# Altium footprint library PACKAGES_SON.PcbLib: 8 footprints
Each footprint in its own frame and in the unit in brackets; x right, y up, seen from the top. Pads: shape width x height; smd on the part's side, far side on the other; paste and mask are expansions set on the pad; w line width, h text height; cw(c..) or ccw(c..) is an arc to the next point about the centre after c.
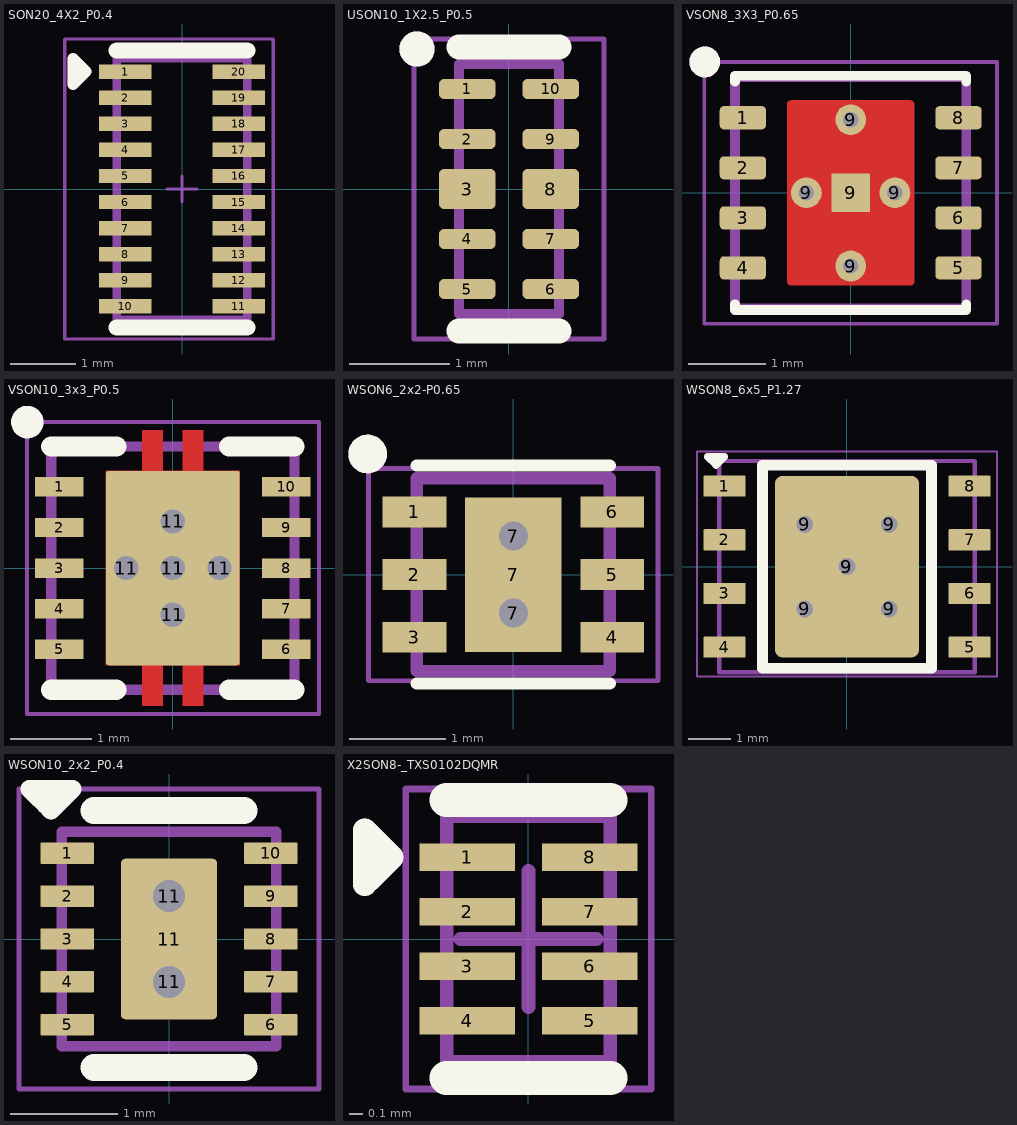
[diagram p0: the footprints below, top view; thin cyan lines are the x and y axes]

## SON20_4X2_P0.4 [mm]
pads (20):
  rect 0.8x0.22 smd: 1(-0.87,1.8) 2(-0.87,1.4) 3(-0.87,1) 4(-0.87,0.6) 5(-0.87,0.2) 6(-0.87,-0.2) 7(-0.87,-0.6) 8(-0.87,-1) 9(-0.87,-1.4) 10(-0.87,-1.8) 11(0.87,-1.8) 12(0.87,-1.4) 13(0.87,-1) 14(0.87,-0.6) 15(0.87,-0.2) 16(0.87,0.2) 17(0.87,0.6) 18(0.87,1) 19(0.87,1.4) 20(0.87,1.8)
Top Overlay:
  lines w0.17: -1.475,1.8 -1.525,1.75 -1.675,1.6 -1.675,2 -1.475,1.8 ; -1.475,1.8 -1.475,1.8
  lines w0.25: -1,-2.125 1,-2.125 ; -1,2.125 1,2.125
Mechanical 13:
  lines w0.127: -1,-2 1,-2 1,2 -1,2 -1,-2
  lines w0.17: -1.475,1.8 -1.525,1.75 -1.675,1.6 -1.675,2 -1.475,1.8 ; -1.475,1.8 -1.475,1.8
Mechanical 15:
  lines w0.05: -0.225,0 0.225,0 ; 0,-0.2 0,0.2 ; -1.8,-2.3 -1.8,2.3 1.4,2.3 1.4,-2.3 -1.8,-2.3
3D body "SON-20_4x2.step": height 0.55, standoff 0, extent -1,-2 1,2

## USON10_1X2.5_P0.5 [mm]
pads (10):
  rrect50% 0.565x0.2 smd mask+0: 1(-0.417,1) 2(-0.417,0.5) 4(-0.417,-0.5) 5(-0.417,-1) 6(0.417,-1) 7(0.417,-0.5) 9(0.417,0.5) 10(0.417,1)
  rrect25% 0.565x0.4 smd paste-1 mask+0: 3(-0.417,0) 8(0.417,0)
Top Overlay:
  circle w0.25: c-0.92,1.4 r0.05
  lines w0.25: -0.5,-1.42 0.5,-1.42 ; -0.5,1.42 0.5,1.42
Top Paste:
  drawing of 2 lines, arcs and shapes, not listed
Top Solder:
  region: -0.065,0.83 -0.77,0.83 -0.77,1.17 -0.065,1.17
  region: -0.065,0.33 -0.77,0.33 -0.77,0.67 -0.065,0.67
  region: -0.065,-0.67 -0.77,-0.67 -0.77,-0.33 -0.065,-0.33
  region: -0.065,-1.17 -0.77,-1.17 -0.77,-0.83 -0.065,-0.83
  region: 0.77,0.83 0.065,0.83 0.065,1.17 0.77,1.17
  region: 0.77,0.33 0.065,0.33 0.065,0.67 0.77,0.67
  region: 0.77,-0.67 0.065,-0.67 0.065,-0.33 0.77,-0.33
  region: 0.77,-1.17 0.065,-1.17 0.065,-0.83 0.77,-0.83
  region: -0.065,-0.27 -0.77,-0.27 -0.77,0.27 -0.065,0.27
  region: 0.77,-0.27 0.065,-0.27 0.065,0.27 0.77,0.27
Mechanical 13:
  circle w0.25: c-0.92,1.4 r0.05
  lines w0.1: -0.5,-1.25 0.5,-1.25 0.5,1.25 -0.5,1.25 -0.5,-1.25
Mechanical 15:
  lines w0.05: -0.95,-1.5 -0.95,1.5 0.95,1.5 0.95,-1.5 -0.95,-1.5
3D body "TPD4EUSB30DQAR.STEP": height 0.55, standoff 0, extent -0.5,-1.25 0.5,1.25

## VSON8_3X3_P0.65 [mm]
height 1
pads (13):
  rrect35% 0.6x0.3 smd mask+0: 1(-1.4,0.975) 2(-1.4,0.325) 3(-1.4,-0.325) 4(-1.4,-0.975) 5(1.4,-0.975) 6(1.4,-0.325) 7(1.4,0.325) 8(1.4,0.975)
  round 0.4 hole 0.2 mask+0: 9(-0.575,0) 9(0,-0.95) 9(0,0.95) 9(0.575,0)
  rect 0.5x0.5 smd paste-1 mask+0: 9(0,0)
Top Layer:
  region: 0.783,1.199 0.785,1.199 0.788,1.198 0.79,1.198 0.793,1.197 0.795,1.196 0.798,1.195 0.8,1.193 0.802,1.192 0.804,1.19 0.806,1.189 0.808,1.187 0.81,1.185 0.812,1.183 0.814,1.181 0.815,1.179 0.817,1.177 0.818,1.175 0.82,1.173 0.821,1.17 0.822,1.168 0.823,1.165 0.823,1.163 0.824,1.16 0.824,1.158 0.825,1.155 0.825,1.153 0.825,1.15 0.825,-1.15 0.825,-1.153 0.825,-1.155 0.824,-1.158 0.824,-1.16 0.823,-1.163 0.823,-1.165 0.822,-1.168 0.821,-1.17 0.82,-1.173 0.818,-1.175 0.817,-1.177 0.815,-1.179 0.814,-1.181 0.812,-1.183 0.81,-1.185 0.808,-1.187 0.806,-1.189 0.804,-1.19 0.802,-1.192 0.8,-1.193 0.798,-1.195 0.795,-1.196 0.793,-1.197 0.79,-1.198 0.788,-1.198 0.785,-1.199 0.783,-1.199 0.78,-1.2 -0.78,-1.2 -0.783,-1.199 -0.785,-1.199 -0.788,-1.198 -0.79,-1.198 -0.793,-1.197 -0.795,-1.196 -0.798,-1.195 -0.8,-1.193 -0.802,-1.192 -0.804,-1.19 -0.806,-1.189 -0.808,-1.187 -0.81,-1.185 -0.812,-1.183 -0.814,-1.181 -0.815,-1.179 -0.817,-1.177 -0.818,-1.175 -0.82,-1.173 -0.821,-1.17 -0.822,-1.168 -0.823,-1.165 -0.823,-1.163 -0.824,-1.16 -0.824,-1.158 -0.825,-1.155 -0.825,-1.153 -0.825,-1.15 -0.825,1.15 -0.825,1.153 -0.825,1.155 -0.824,1.158 -0.824,1.16 -0.823,1.163 -0.823,1.165 -0.822,1.168 -0.821,1.17 -0.82,1.173 -0.818,1.175 -0.817,1.177 -0.815,1.179 -0.814,1.181 -0.812,1.183 -0.81,1.185 -0.808,1.187 -0.806,1.189 -0.804,1.19 -0.802,1.192 -0.8,1.193 -0.798,1.195 -0.795,1.196 -0.793,1.197 -0.79,1.198 -0.788,1.198 -0.785,1.199 -0.783,1.199 -0.78,1.2 0.78,1.2
Top Overlay:
  circle w0.2: c-1.895,1.7 r0.1
  lines w0.127: -1.5,-1.445 -1.5,-1.52 1.5,-1.52 1.5,-1.445 ; -1.5,1.445 -1.5,1.52 1.5,1.52 1.5,1.445
Top Paste:
  drawing of 2 lines, arcs and shapes, not listed
Top Solder:
  drawing of 9 lines, arcs and shapes, not listed
Mechanical 13:
  circle w0.2: c-1.895,1.7 r0.1
  lines w0.127: -1.5,-1.5 -1.5,1.5 1.5,1.5 1.5,-1.5 -1.5,-1.5
Mechanical 15:
  lines w0.05: -1.9,-1.7 1.9,-1.7 1.9,1.7 -1.9,1.7 -1.9,-1.7
3D body "step_temp.STEP": height 1, standoff 0, extent -1.5,-1.5 1.5,1.5

## VSON10_3x3_P0.5 [mm]
pads (16):
  rect 0.6x0.24 smd mask+0: 1(-1.4,1) 2(-1.4,0.5) 3(-1.4,0) 4(-1.4,-0.5) 5(-1.4,-1) 6(1.4,-1) 7(1.4,-0.5) 8(1.4,0) 9(1.4,0.5) 10(1.4,1)
  round 0.5 hole 0.3 mask+0: 11(-0.575,0) 11(0,-0.575) 11(0,0) 11(0,0.575) 11(0.575,0)
  rrect5% 1.65x2.4 smd paste-2 mask+0: 11(0,0)
Top Layer:
  region: 0.375,1.2 0.825,1.2 0.825,-1.2 0.375,-1.2 0.375,-1.7 0.125,-1.7 0.125,-1.2 -0.125,-1.2 -0.125,-1.7 -0.375,-1.7 -0.375,-1.2 -0.825,-1.2 -0.825,1.2 -0.375,1.2 -0.375,1.7 -0.125,1.7 -0.125,1.2 0.125,1.2 0.125,1.7 0.375,1.7
Top Overlay:
  circle w0.2: c-1.795,1.8 r0.1
  lines w0.25: -1.5,-1.5 -0.695,-1.5 ; -1.5,1.5 -0.695,1.5 ; 0.695,-1.5 1.5,-1.5 ; 0.695,1.5 1.5,1.5
Top Paste:
  region: 0.75,0.1 -0.75,0.1 -0.75,1.16 0.75,1.16
  region: 0.75,-1.16 -0.75,-1.16 -0.75,-0.1 0.75,-0.1
  region: 0.375,1.36 0.125,1.36 0.125,1.7 0.375,1.7
  region: -0.125,1.36 -0.375,1.36 -0.375,1.7 -0.125,1.7
  region: 0.375,-1.7 0.125,-1.7 0.125,-1.36 0.375,-1.36
  region: -0.125,-1.7 -0.375,-1.7 -0.375,-1.36 -0.125,-1.36
Top Solder:
  region: 0.445,1.27 0.895,1.27 0.895,-1.27 0.445,-1.27 0.445,-1.77 0.055,-1.77 0.055,-1.27 -0.055,-1.27 -0.055,-1.77 -0.445,-1.77 -0.445,-1.27 -0.895,-1.27 -0.895,1.27 -0.445,1.27 -0.445,1.77 -0.055,1.77 -0.055,1.27 0.055,1.27 0.055,1.77 0.445,1.77
  region: 1.77,0.81 1.03,0.81 1.03,1.19 1.77,1.19
  region: 1.77,0.31 1.03,0.31 1.03,0.69 1.77,0.69
  region: 1.77,-0.19 1.03,-0.19 1.03,0.19 1.77,0.19
  region: 1.77,-0.69 1.03,-0.69 1.03,-0.31 1.77,-0.31
  region: 1.77,-1.19 1.03,-1.19 1.03,-0.81 1.77,-0.81
  region: -1.03,-1.19 -1.77,-1.19 -1.77,-0.81 -1.03,-0.81
  region: -1.03,-0.69 -1.77,-0.69 -1.77,-0.31 -1.03,-0.31
  region: -1.03,-0.19 -1.77,-0.19 -1.77,0.19 -1.03,0.19
  region: -1.03,0.31 -1.77,0.31 -1.77,0.69 -1.03,0.69
  region: -1.03,0.81 -1.77,0.81 -1.77,1.19 -1.03,1.19
Mechanical 13:
  circle w0.2: c-1.795,1.8 r0.1
  lines w0.127: -1.5,-1.5 -1.5,1.5 1.5,1.5 1.5,-1.5 -1.5,-1.5
Mechanical 15:
  lines w0.05: -1.8,-1.8 -1.8,1.8 1.8,1.8 1.8,-1.8 -1.8,-1.8
3D body "VSON10_3x3_P0.5.step": height 1, standoff 0, extent -1.5,-1.5 1.5,1.5

## WSON6_2x2-P0.65 [mm]
pads (9):
  rect 0.66x0.32 smd: 1(-1.025,0.65) 2(-1.025,0) 3(-1.025,-0.65) 4(1.025,-0.65) 5(1.025,0) 6(1.025,0.65)
  round 0.6 hole 0.3: 7(0,-0.4) 7(0,0.4)
  rect 1x1.6 smd paste-2: 7(0,0)
Top Overlay:
  circle w0.2: c-1.51,1.25 r0.1
  lines w0.127: -1,-1.13 1,-1.13 ; -1,1.13 1,1.13
Top Paste:
  region: 0.316,-0.506 -0.316,-0.506 -0.316,0.506 0.316,0.506
Mechanical 13:
  circle w0.2: c-1.51,1.25 r0.1
  lines w0.127: -1,-1 1,-1 1,1 -1,1 -1,-1
Mechanical 15:
  lines w0.05: -1.5,-1.1 1.5,-1.1 1.5,1.1 -1.5,1.1 -1.5,-1.1
3D body "WSON6_2x2_P0.65.step": height 0.8, standoff 0, extent -1,-1 1,1

## WSON8_6x5_P1.27 [mm]
pads (14):
  rrect10% 1x0.5 smd: 1(-2.9,1.905) 2(-2.9,0.635) 3(-2.9,-0.635) 4(-2.9,-1.905) 5(2.9,-1.905) 6(2.9,-0.635) 7(2.9,0.635) 8(2.9,1.905)
  round 0.8 hole 0.4: 9(-1,-1) 9(-1,1) 9(0,0) 9(1,-1) 9(1,1)
  rrect10% 3.4x4.3 smd: 9(0,0)
Top Overlay:
  lines w0.17: -3.1,2.4 -2.9,2.6 -3.3,2.6 -3.25,2.55 -3.15,2.45 -3.1,2.4 ; -3.1,2.4 -3.1,2.4
  lines w0.25: -2,-2.4 -2,2.4 2,2.4 2,-2.4 -2,-2.4
Mechanical 13:
  lines w0.1: -3.025,-2.5 -3.025,2.5 3.025,2.5 3.025,-2.5 -3.025,-2.5
  lines w0.17: -3.1,2.4 -2.9,2.6 -3.3,2.6 -3.25,2.55 -3.15,2.45 -3.1,2.4 ; -3.1,2.4 -3.1,2.4
Mechanical 15:
  lines w0.05: -0.225,0 0.225,0 ; 0,-0.2 0,0.2 ; 3.55,-2.6 -3.55,-2.6 -3.55,-2.375 -3.55,2.725 3.55,2.725 3.55,-2.375 3.55,-2.6 ; 3.55,-2.6 3.55,-2.6
  lines w0.1: -0.5,0 0.5,0 ; 0,-0.5 0,0.5
3D body "WIN_ZP-8_WIN.step": height 0.79, standoff 0, extent -3.048,-2.553 3.048,2.553

## WSON10_2x2_P0.4 [mm]
pads (13):
  rrect10% 0.5x0.2 smd: 1(-0.95,0.8) 2(-0.95,0.4) 3(-0.95,0) 4(-0.95,-0.4) 5(-0.95,-0.8) 6(0.95,-0.8) 7(0.95,-0.4) 8(0.95,0) 9(0.95,0.4) 10(0.95,0.8)
  round 0.6 hole 0.3: 11(0,-0.4) 11(0,0.4)
  rrect10% 0.9x1.5 smd: 11(0,0)
Top Overlay:
  lines w0.17: -1.1,1.2 -1.15,1.25 -1.25,1.35 -1.3,1.4 -0.9,1.4 -1.1,1.2 ; -1.1,1.2 -1.1,1.2
  lines w0.25: -0.7,-1.2 0.7,-1.2 ; -0.7,1.2 0.7,1.2
Mechanical 13:
  lines w0.1: -1,-1 -1,1 1,1 1,-1 -1,-1
  lines w0.17: -1.1,1.2 -0.9,1.4 -1.3,1.4 -1.25,1.35 -1.15,1.25 -1.1,1.2 ; -1.1,1.2 -1.1,1.2
Mechanical 15:
  lines w0.05: -0.225,0 0.225,0 ; 0,-0.2 0,0.2 ; -1.4,-1.4 1.4,-1.4 1.4,1.4 -1.4,1.4 -1.4,-1.4
3D body "DSQ0010A-WSON10-2x2-P0.4.stp": height 0.8, standoff 0, extent -1,-1 1,1

## X2SON8-_TXS0102DQMR [mm]
pads (8):
  rect 0.7x0.2 smd mask+0: 1(-0.45,0.6) 2(-0.45,0.2) 3(-0.45,-0.2) 4(-0.45,-0.6) 5(0.45,-0.6) 6(0.45,-0.2) 7(0.45,0.2) 8(0.45,0.6)
Top Overlay:
  lines w0.17: -1,0.6 -1.05,0.55 -1.15,0.45 -1.2,0.4 -1.2,0.8 -1,0.6 ; -1,0.6 -1,0.6
  lines w0.25: -0.6,-1.02 0.6,-1.02 ; -0.6,1.02 0.6,1.02
Top Solder:
  region: 0.85,-0.75 0.05,-0.75 0.05,-0.45 0.85,-0.45
  region: 0.85,-0.35 0.05,-0.35 0.05,-0.05 0.85,-0.05
  region: 0.85,0.05 0.05,0.05 0.05,0.35 0.85,0.35
  region: 0.85,0.45 0.05,0.45 0.05,0.75 0.85,0.75
  region: -0.05,-0.75 -0.85,-0.75 -0.85,-0.45 -0.05,-0.45
  region: -0.05,-0.35 -0.85,-0.35 -0.85,-0.05 -0.05,-0.05
  region: -0.05,0.05 -0.85,0.05 -0.85,0.35 -0.05,0.35
  region: -0.05,0.45 -0.85,0.45 -0.85,0.75 -0.05,0.75
Mechanical 13:
  lines w0.1: -0.6,-0.9 -0.6,0.9 0.6,0.9 0.6,-0.9 -0.6,-0.9
  lines w0.17: -1,0.6 -1.2,0.8 -1.2,0.4 -1.15,0.45 -1.05,0.55 -1,0.6 ; -1,0.6 -1,0.6
Mechanical 15:
  lines w0.05: -0.9,-1.1 -0.9,1.1 0.9,1.1 0.9,-1.1 -0.9,-1.1
  lines w0.1: -0.5,0 0.5,0 ; 0,-0.5 0,0.5
3D body "X2SON8-TXS0102DQMR.STEP": height 0.4, standoff 0, extent -0.6,-0.9 0.6,0.9